# EAGLE library part M10382 (library evansLibrary)
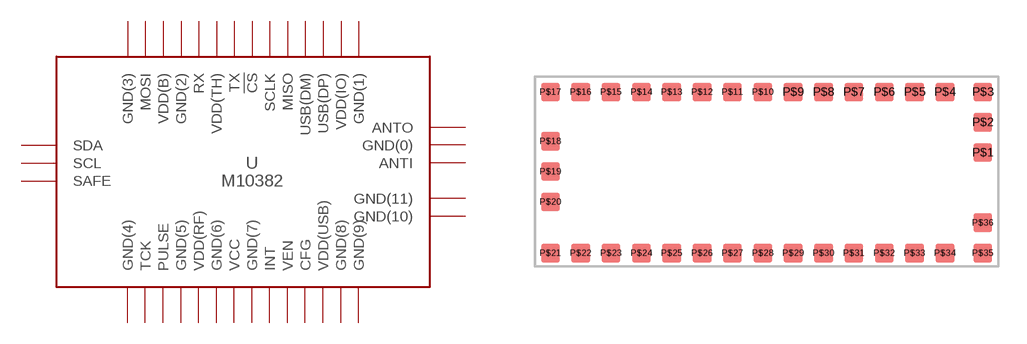
[diagram p3: symbol with the pads of MOD_M10382; footprint MOD_M10382]

Designator prefix -

## M10382  [MOD_M10382]
P$1  ANTI
P$2  GND(0)
P$3  ANTO
P$4  GND(1)
P$5  VDD(IO)
P$6  USB(DP)
P$7  USB(DM)
P$8  MISO
P$9  SCLK
P$10  !CS
P$11  TX
P$12  VDD(TH)
P$13  RX
P$14  GND(2)
P$15  VDD(B)
P$16  MOSI
P$17  GND(3)
P$18  SDA
P$19  SCL
P$20  SAFE
P$21  GND(4)
P$22  TCK
P$23  PULSE
P$24  GND(5)
P$25  VDD(RF)
P$26  GND(6)
P$27  VCC
P$28  GND(7)
P$29  INT
P$30  VEN
P$31  CFG
P$32  VDD(USB)
P$33  GND(8)
P$34  GND(9)
P$35  GND(10)
P$36  GND(11)

## Footprint MOD_M10382 (pad centres in mm)
smd 1 x 1: P$1 0,0; P$2 0,1.6; P$3 0,3.2; P$4 -2,3.2; P$5 -3.6,3.2; P$6 -5.2,3.2; P$7 -6.8,3.2; P$8 -8.4,3.2; P$9 -10,3.2; P$10 -11.6,3.2; P$11 -13.2,3.2; P$12 -14.8,3.2; P$13 -16.4,3.2; P$14 -18,3.2; P$15 -19.6,3.2; P$16 -21.2,3.2; P$17 -22.8,3.2; P$18 -22.8,0.6; P$19 -22.8,-1; P$20 -22.8,-2.6; P$21 -22.8,-5.3; P$22 -21.2,-5.3; P$23 -19.6,-5.3; P$24 -18,-5.3; P$25 -16.4,-5.3; P$26 -14.8,-5.3; P$27 -13.2,-5.3; P$28 -11.6,-5.3; P$29 -10,-5.3; P$30 -8.4,-5.3; P$31 -6.8,-5.3; P$32 -5.2,-5.3; P$33 -3.6,-5.3; P$34 -2,-5.3; P$35 0,-5.3; P$36 0,-3.7